# Altium footprint library DIP-CN  0607.PcbLib: 329 footprints (part 1 of 21)
Each footprint in its own frame and in the unit in brackets; x right, y up, seen from the top. Pads: shape width x height; smd on the part's side, far side on the other; paste and mask are expansions set on the pad; w line width, h text height; cw(c..) or ccw(c..) is an arc to the next point about the centre after c.
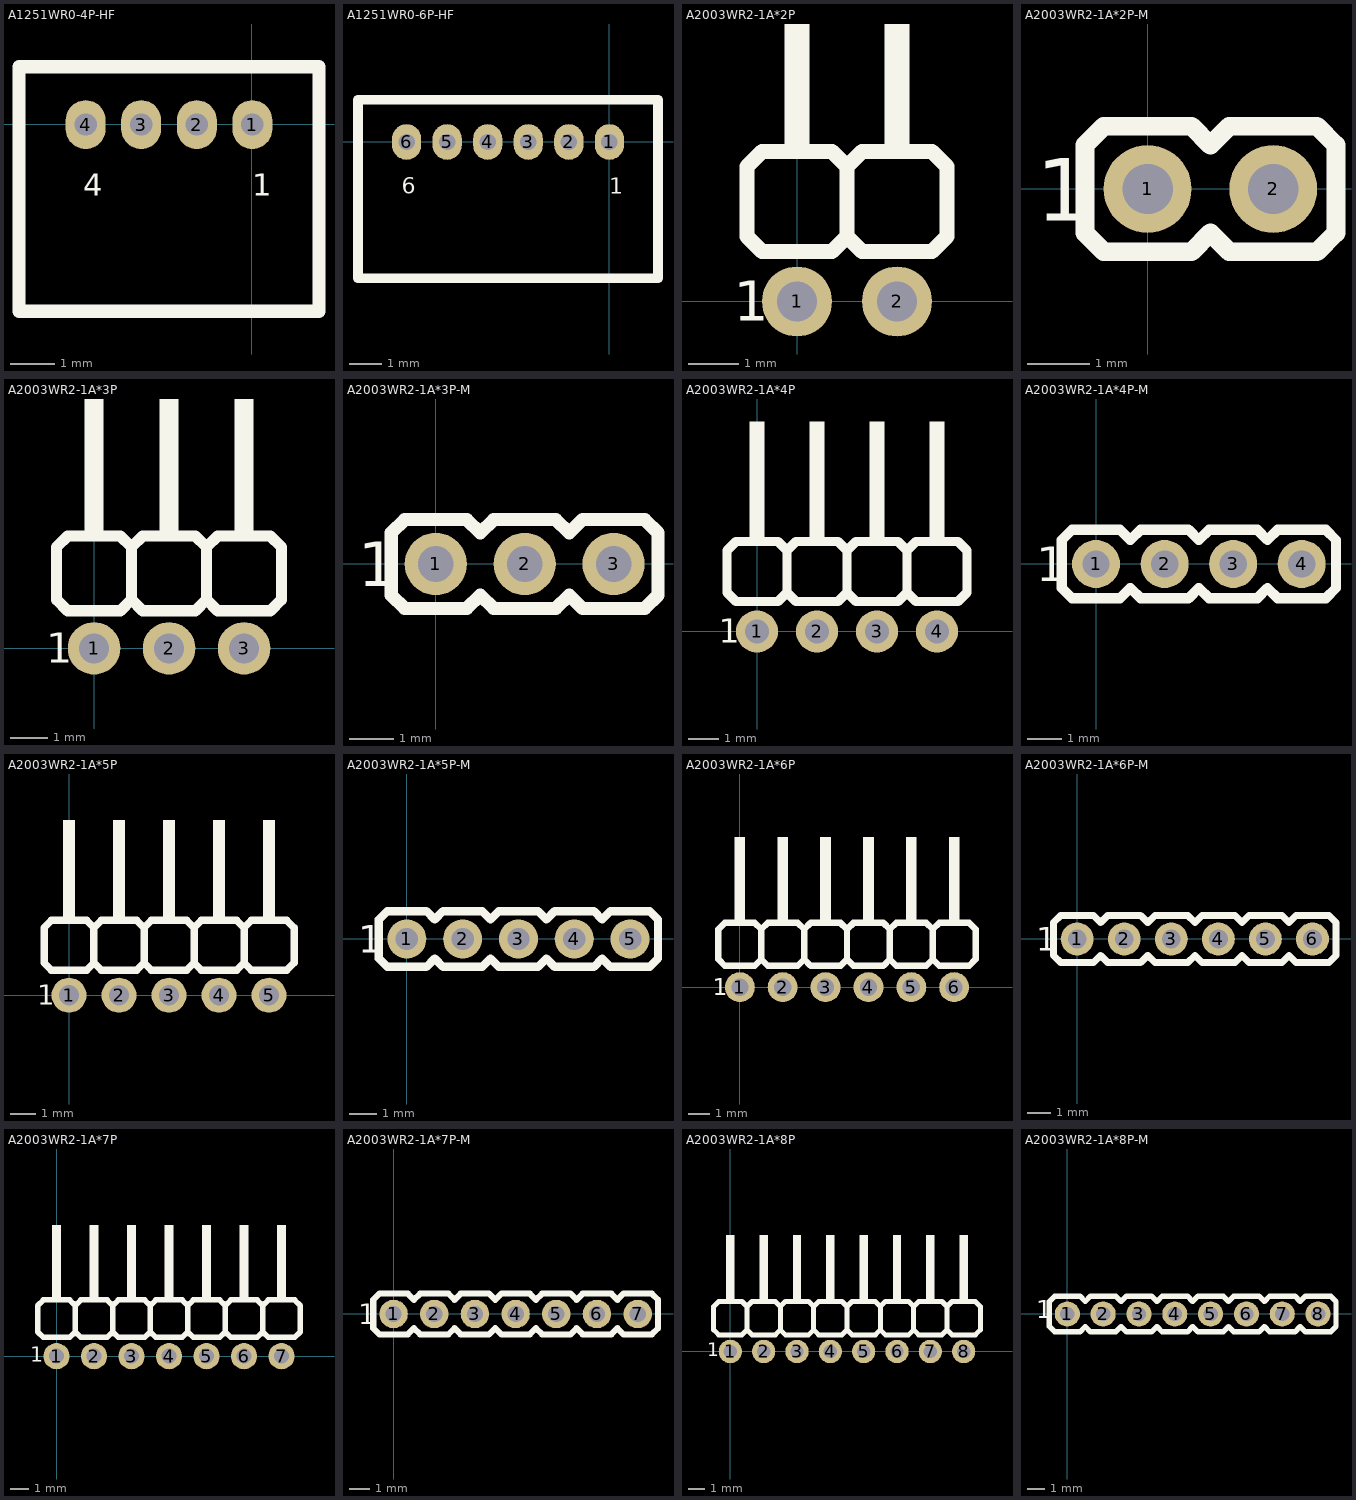
[diagram p0: the footprints below, top view; thin cyan lines are the x and y axes]

## A1251WR0-4P-HF [mm]
pads (4):
  oval 0.9x1.1 hole 0.5: 1(0.011,-0.006) 2(-1.239,-0.006) 3(-2.489,-0.006) 4(-3.739,-0.006)
TopOverlay:
  lines w0.3: -5.239,-4.206 -5.239,1.294 1.511,1.294 1.511,-4.206 -5.239,-4.206
  text "4" at -3.789,-1.606 h0.5
  text "1" at 0.011,-1.606 h0.5
BottomOverlay:
  lines w0.3: -3.189,-0.506 -3.189,0.494 ; -1.889,-0.506 -1.889,0.494 ; -0.589,-0.506 -0.589,0.494

## A1251WR0-6P-HF [mm]
pads (6):
  oval 0.9x1.1 hole 0.5: 1(0.007,-0.002) 2(-1.243,-0.002) 3(-2.493,-0.002) 4(-3.743,-0.002) 5(-4.993,-0.002) 6(-6.243,-0.002)
TopOverlay:
  lines w0.3: -7.743,-4.202 -7.743,1.298 1.507,1.298 1.507,-4.202 -7.743,-4.202
  text "1" at 0.007,-1.602 h0.5
  text "6" at -6.393,-1.602 h0.5
BottomOverlay:
  lines w0.3: -5.693,-0.502 -5.693,0.498 ; -4.393,-0.502 -4.393,0.498 ; -3.093,-0.502 -3.093,0.498 ; -1.893,-0.502 -1.893,0.498 ; -0.593,-0.502 -0.593,0.498

## A2003WR2-1A*2P [mm]
pads (2):
  round 1.4 hole 0.8: 1(0,0) 2(2,0)
TopOverlay:
  region: 0.25,3 0.25,7 -0.25,7 -0.25,3
  region: 2.25,3 2.25,7 1.75,7 1.75,3
  lines w0.3: 1,1.3 0.7,1 -0.7,1 -1,1.3 -1,2.7 -0.7,3 0.7,3 1,2.7 ; 1,1.3 1,2.7 ; 1,1.3 1.3,1 2.7,1 3,1.3 3,2.7 2.7,3 1.3,3 1,2.7
  text "1" at -1.27,-0.381 h0.8
BottomOverlay:
  lines w0.3: 1,-0.75 1,0.75

## A2003WR2-1A*2P-M [mm]
pads (2):
  round 1.4 hole 0.8: 1(0,0) 2(2,0)
TopOverlay:
  lines w0.3: -1,-0.7 -1,0.7 -0.7,1 0.7,1 1,0.7 1.3,1 2.7,1 3,0.7 3,-0.7 2.7,-1 1.3,-1 1,-0.7 0.7,-1 -0.7,-1 -1,-0.7
  text "1" at -1.778,-0.508 h1
BottomOverlay:
  lines w0.3: 1,-0.75 1,0.75

## A2003WR2-1A*3P [mm]
pads (3):
  round 1.4 hole 0.8: 1(0,0) 2(2,0) 3(4,0)
TopOverlay:
  region: 0.25,3 0.25,7 -0.25,7 -0.25,3
  region: 2.25,3 2.25,7 1.75,7 1.75,3
  region: 4.25,3 4.25,7 3.75,7 3.75,3
  lines w0.3: 1,1.3 1.3,1 2.7,1 3,1.3 ; 1,1.3 1,2.7 ; 1,1.3 0.7,1 -0.7,1 -1,1.3 -1,2.7 -0.7,3 0.7,3 1,2.7 ; 1,2.7 1.3,3 2.7,3 3,2.7 ; 3,1.3 3,2.7 ; 3,1.3 3.3,1 4.7,1 5,1.3 5,2.7 4.7,3 3.3,3 3,2.7
  text "1" at -1.27,-0.381 h0.8
BottomOverlay:
  lines w0.3: 1,-0.75 1,0.75 ; 3,-0.75 3,0.75

## A2003WR2-1A*3P-M [mm]
pads (3):
  round 1.4 hole 0.8: 1(0,0) 2(2,0) 3(4,0)
TopOverlay:
  lines w0.3: -1,-0.7 -1,0.7 -0.7,1 0.7,1 1,0.7 1.3,1 2.7,1 3,0.7 3.3,1 4.7,1 5,0.7 5,-0.7 4.7,-1 3.3,-1 3,-0.7 2.7,-1 1.3,-1 1,-0.7 0.7,-1 -0.7,-1 -1,-0.7
  text "1" at -1.75,-0.5 h1
BottomOverlay:
  lines w0.3: 1,-0.75 1,0.75 ; 3,-0.75 3,0.75

## A2003WR2-1A*4P [mm]
pads (4):
  round 1.4 hole 0.8: 1(0,0) 2(2,0) 3(4,0) 4(6,0)
TopOverlay:
  region: 6.25,3 6.25,7 5.75,7 5.75,3
  region: 4.25,3 4.25,7 3.75,7 3.75,3
  region: 2.25,3 2.25,7 1.75,7 1.75,3
  region: 0.25,3 0.25,7 -0.25,7 -0.25,3
  lines w0.3: 1,1.3 0.7,1 -0.7,1 -1,1.3 -1,2.7 -0.7,3 0.7,3 1,2.7 ; 1,1.3 1,2.7 ; 1,1.3 1.3,1 2.7,1 3,1.3 ; 1,2.7 1.3,3 2.7,3 3,2.7 ; 3,1.3 3.3,1 4.7,1 5,1.3 ; 3,1.3 3,2.7 ; 3,2.7 3.3,3 4.7,3 5,2.7 ; 5,1.3 5,2.7 ; 5,1.3 5.3,1 6.7,1 7,1.3 7,2.7 6.7,3 5.3,3 5,2.7
  text "1" at -1.27,-0.381 h0.8
BottomOverlay:
  lines w0.3: 1,-0.75 1,0.75 ; 3,-0.75 3,0.75 ; 5,-0.75 5,0.75

## A2003WR2-1A*4P-M [mm]
pads (4):
  round 1.4 hole 0.8: 1(0,0) 2(2,0) 3(4,0) 4(6,0)
TopOverlay:
  lines w0.3: -1,-0.7 -1,0.7 -0.7,1 0.7,1 1,0.7 1.3,1 2.7,1 3,0.7 3.3,1 4.7,1 5,0.7 5.3,1 6.7,1 7,0.7 7,-0.7 6.7,-1 5.3,-1 5,-0.7 4.7,-1 3.3,-1 3,-0.7 2.7,-1 1.3,-1 1,-0.7 0.7,-1 -0.7,-1 -1,-0.7
  text "1" at -1.75,-0.5 h1
BottomOverlay:
  lines w0.3: 1,-0.75 1,0.75 ; 3,-0.75 3,0.75 ; 5,-0.75 5,0.75

## A2003WR2-1A*5P [mm]
pads (5):
  round 1.4 hole 0.8: 1(0,0) 2(2,0) 3(4,0) 4(6,0) 5(8,0)
TopOverlay:
  region: 8.25,3 8.25,7 7.75,7 7.75,3
  region: 6.25,3 6.25,7 5.75,7 5.75,3
  region: 4.25,3 4.25,7 3.75,7 3.75,3
  region: 2.25,3 2.25,7 1.75,7 1.75,3
  region: 0.25,3 0.25,7 -0.25,7 -0.25,3
  lines w0.3: 1,1.3 0.7,1 -0.7,1 -1,1.3 -1,2.7 -0.7,3 0.7,3 1,2.7 ; 1,1.3 1,2.7 ; 1,1.3 1.3,1 2.7,1 3,1.3 ; 1,2.7 1.3,3 2.7,3 3,2.7 ; 3,1.3 3.3,1 4.7,1 5,1.3 ; 3,1.3 3,2.7 ; 3,2.7 3.3,3 4.7,3 5,2.7 ; 5,1.3 5,2.7 ; 5,1.3 5.3,1 6.7,1 7,1.3 ; 5,2.7 5.3,3 6.7,3 7,2.7 ; 7,1.3 7.3,1 8.7,1 9,1.3 9,2.7 8.7,3 7.3,3 7,2.7 ; 7,1.3 7,2.7
  text "1" at -1.27,-0.381 h0.8
BottomOverlay:
  lines w0.3: 1,-0.75 1,0.75 ; 3,-0.75 3,0.75 ; 5,-0.75 5,0.75 ; 7,-0.75 7,0.75

## A2003WR2-1A*5P-M [mm]
pads (5):
  round 1.4 hole 0.8: 1(0,0) 2(2,0) 3(4,0) 4(6,0) 5(8,0)
TopOverlay:
  lines w0.3: -1,-0.7 -1,0.7 -0.7,1 0.7,1 1,0.7 1.3,1 2.7,1 3,0.7 3.3,1 4.7,1 5,0.7 5.3,1 6.7,1 7,0.7 7.3,1 8.7,1 9,0.7 9,-0.7 8.7,-1 7.3,-1 7,-0.7 6.7,-1 5.3,-1 5,-0.7 4.7,-1 3.3,-1 3,-0.7 2.7,-1 1.3,-1 1,-0.7 0.7,-1 -0.7,-1 -1,-0.7
  text "1" at -1.75,-0.5 h1
BottomOverlay:
  lines w0.3: 1,-0.75 1,0.75 ; 3,-0.75 3,0.75 ; 5,-0.75 5,0.75 ; 7,-0.75 7,0.75

## A2003WR2-1A*6P [mm]
pads (6):
  round 1.4 hole 0.8: 1(0,0) 2(2,0) 3(4,0) 4(6,0) 5(8,0) 6(10,0)
TopOverlay:
  region: 10.25,3 10.25,7 9.75,7 9.75,3
  region: 8.25,3 8.25,7 7.75,7 7.75,3
  region: 6.25,3 6.25,7 5.75,7 5.75,3
  region: 4.25,3 4.25,7 3.75,7 3.75,3
  region: 2.25,3 2.25,7 1.75,7 1.75,3
  region: 0.25,3 0.25,7 -0.25,7 -0.25,3
  lines w0.3: 1,1.3 0.7,1 -0.7,1 -1,1.3 -1,2.7 -0.7,3 0.7,3 1,2.7 ; 1,1.3 1,2.7 ; 1,1.3 1.3,1 2.7,1 3,1.3 ; 1,2.7 1.3,3 2.7,3 3,2.7 ; 3,1.3 3.3,1 4.7,1 5,1.3 ; 3,1.3 3,2.7 ; 3,2.7 3.3,3 4.7,3 5,2.7 ; 5,1.3 5,2.7 ; 5,1.3 5.3,1 6.7,1 7,1.3 ; 5,2.7 5.3,3 6.7,3 7,2.7 ; 7,1.3 7.3,1 8.7,1 9,1.3 ; 7,1.3 7,2.7 ; 7,2.7 7.3,3 8.7,3 9,2.7 ; 9,1.3 9.3,1 10.7,1 11,1.3 11,2.7 10.7,3 9.3,3 9,2.7 ; 9,1.3 9,2.7
  text "1" at -1.27,-0.381 h0.8
BottomOverlay:
  lines w0.3: 1,-0.75 1,0.75 ; 3,-0.75 3,0.75 ; 5,-0.75 5,0.75 ; 7,-0.75 7,0.75 ; 9,-0.75 9,0.75

## A2003WR2-1A*6P-M [mm]
pads (6):
  round 1.4 hole 0.8: 1(0,0) 2(2,0) 3(4,0) 4(6,0) 5(8,0) 6(10,0)
TopOverlay:
  lines w0.3: -1,-0.7 -1,0.7 -0.7,1 0.7,1 1,0.7 1.3,1 2.7,1 3,0.7 3.3,1 4.7,1 5,0.7 5.3,1 6.7,1 7,0.7 7.3,1 8.7,1 9,0.7 9.3,1 10.7,1 11,0.7 11,-0.7 10.7,-1 9.3,-1 9,-0.7 8.7,-1 7.3,-1 7,-0.7 6.7,-1 5.3,-1 5,-0.7 4.7,-1 3.3,-1 3,-0.7 2.7,-1 1.3,-1 1,-0.7 0.7,-1 -0.7,-1 -1,-0.7
  text "1" at -1.75,-0.5 h1
BottomOverlay:
  lines w0.3: 1,-0.75 1,0.75 ; 3,-0.75 3,0.75 ; 5,-0.75 5,0.75 ; 7,-0.75 7,0.75 ; 9,-0.75 9,0.75

## A2003WR2-1A*7P [mm]
pads (7):
  round 1.4 hole 0.8: 1(0,0) 2(2,0) 3(4,0) 4(6,0) 5(8,0) 6(10,0) 7(12,0)
TopOverlay:
  region: 12.25,3 12.25,7 11.75,7 11.75,3
  region: 10.25,3 10.25,7 9.75,7 9.75,3
  region: 8.25,3 8.25,7 7.75,7 7.75,3
  region: 6.25,3 6.25,7 5.75,7 5.75,3
  region: 4.25,3 4.25,7 3.75,7 3.75,3
  region: 2.25,3 2.25,7 1.75,7 1.75,3
  region: 0.25,3 0.25,7 -0.25,7 -0.25,3
  lines w0.3: 1,1.3 0.7,1 -0.7,1 -1,1.3 -1,2.7 -0.7,3 0.7,3 1,2.7 ; 1,1.3 1,2.7 ; 1,1.3 1.3,1 2.7,1 3,1.3 ; 1,2.7 1.3,3 2.7,3 3,2.7 ; 3,1.3 3.3,1 4.7,1 5,1.3 ; 3,1.3 3,2.7 ; 3,2.7 3.3,3 4.7,3 5,2.7 ; 5,1.3 5,2.7 ; 5,1.3 5.3,1 6.7,1 7,1.3 ; 5,2.7 5.3,3 6.7,3 7,2.7 ; 7,1.3 7.3,1 8.7,1 9,1.3 ; 7,1.3 7,2.7 ; 7,2.7 7.3,3 8.7,3 9,2.7 ; 9,1.3 9.3,1 10.7,1 11,1.3 ; 9,1.3 9,2.7 ; 9,2.7 9.3,3 10.7,3 11,2.7 ; 11,1.3 11.3,1 12.7,1 13,1.3 13,2.7 12.7,3 11.3,3 11,2.7 ; 11,1.3 11,2.7
  text "1" at -1.4,-0.3 h0.8
BottomOverlay:
  lines w0.3: 1,-0.75 1,0.75 ; 3,-0.75 3,0.75 ; 5,-0.75 5,0.75 ; 7,-0.75 7,0.75 ; 9,-0.75 9,0.75 ; 11,-0.75 11,0.75

## A2003WR2-1A*7P-M [mm]
pads (7):
  round 1.4 hole 0.8: 1(0,0) 2(2,0) 3(4,0) 4(6,0) 5(8,0) 6(10,0) 7(12,0)
TopOverlay:
  lines w0.3: -1,-0.7 -0.7,-1 0.7,-1 1,-0.7 1.3,-1 2.7,-1 3,-0.7 3.3,-1 4.7,-1 5,-0.7 5.3,-1 6.7,-1 7,-0.7 7.3,-1 8.7,-1 9,-0.7 9.3,-1 10.7,-1 11,-0.7 11.3,-1 12.7,-1 13,-0.7 13,0.7 12.7,1 11.3,1 11,0.7 10.7,1 9.3,1 9,0.7 8.7,1 7.3,1 7,0.7 6.7,1 5.3,1 5,0.7 4.7,1 3.3,1 3,0.7 2.7,1 1.3,1 1,0.7 0.7,1 -0.7,1 -1,0.7 -1,-0.7
  text "1" at -1.75,-0.5 h1
BottomOverlay:
  lines w0.3: 1,-0.75 1,0.75 ; 3,-0.75 3,0.75 ; 5,-0.75 5,0.75 ; 7,-0.75 7,0.75 ; 9,-0.75 9,0.75 ; 11,-0.75 11,0.75

## A2003WR2-1A*8P [mm]
pads (8):
  round 1.4 hole 0.8: 1(0,0) 2(2,0) 3(4,0) 4(6,0) 5(8,0) 6(10,0) 7(12,0) 8(14,0)
TopOverlay:
  region: 14.25,3 14.25,7 13.75,7 13.75,3
  region: 12.25,3 12.25,7 11.75,7 11.75,3
  region: 10.25,3 10.25,7 9.75,7 9.75,3
  region: 8.25,3 8.25,7 7.75,7 7.75,3
  region: 6.25,3 6.25,7 5.75,7 5.75,3
  region: 4.25,3 4.25,7 3.75,7 3.75,3
  region: 2.25,3 2.25,7 1.75,7 1.75,3
  region: 0.25,3 0.25,7 -0.25,7 -0.25,3
  lines w0.3: 1,1.3 1.3,1 2.7,1 3,1.3 ; 1,1.3 1,2.7 ; 1,1.3 0.7,1 -0.7,1 -1,1.3 -1,2.7 -0.7,3 0.7,3 1,2.7 ; 1,2.7 1.3,3 2.7,3 3,2.7 ; 3,1.3 3,2.7 ; 3,1.3 3.3,1 4.7,1 5,1.3 ; 3,2.7 3.3,3 4.7,3 5,2.7 ; 5,1.3 5.3,1 6.7,1 7,1.3 ; 5,1.3 5,2.7 ; 5,2.7 5.3,3 6.7,3 7,2.7 ; 7,1.3 7,2.7 ; 7,1.3 7.3,1 8.7,1 9,1.3 ; 7,2.7 7.3,3 8.7,3 9,2.7 ; 9,1.3 9,2.7 ; 9,1.3 9.3,1 10.7,1 11,1.3 ; 9,2.7 9.3,3 10.7,3 11,2.7 ; 11,1.3 11,2.7 ; 11,1.3 11.3,1 12.7,1 13,1.3 ; 11,2.7 11.3,3 12.7,3 13,2.7 ; 13,1.3 13,2.7 ; 13,1.3 13.3,1 14.7,1 15,1.3 15,2.7 14.7,3 13.3,3 13,2.7
  text "1" at -1.4,-0.3 h0.8
BottomOverlay:
  lines w0.3: 1,-0.75 1,0.75 ; 3,-0.75 3,0.75 ; 5,-0.75 5,0.75 ; 7,-0.75 7,0.75 ; 9,-0.75 9,0.75 ; 11,-0.75 11,0.75 ; 13,-0.75 13,0.75

## A2003WR2-1A*8P-M [mm]
pads (8):
  round 1.4 hole 0.8: 1(0,0) 2(2,0) 3(4,0) 4(6,0) 5(8,0) 6(10,0) 7(12,0) 8(14,0)
TopOverlay:
  lines w0.3: -1,-0.7 -0.7,-1 0.7,-1 1,-0.7 1.3,-1 2.7,-1 3,-0.7 3.3,-1 4.7,-1 5,-0.7 5.3,-1 6.7,-1 7,-0.7 7.3,-1 8.7,-1 9,-0.7 9.3,-1 10.7,-1 11,-0.7 11.3,-1 12.7,-1 13,-0.7 13.3,-1 14.7,-1 15,-0.7 15,0.7 14.7,1 13.3,1 13,0.7 12.7,1 11.3,1 11,0.7 10.7,1 9.3,1 9,0.7 8.7,1 7.3,1 7,0.7 6.7,1 5.3,1 5,0.7 4.7,1 3.3,1 3,0.7 2.7,1 1.3,1 1,0.7 0.7,1 -0.7,1 -1,0.7 -1,-0.7
  text "1" at -1.75,-0.25 h1
BottomOverlay:
  lines w0.3: 1,-0.75 1,0.75 ; 3,-0.75 3,0.75 ; 5,-0.75 5,0.75 ; 7,-0.75 7,0.75 ; 9,-0.75 9,0.75 ; 11,-0.75 11,0.75 ; 13,-0.75 13,0.75